# Altium schematic symbol library CrystalOscillator.SchLib: 5 symbols
Pins are listed as number, name and electrical type; pins without a type are passive.

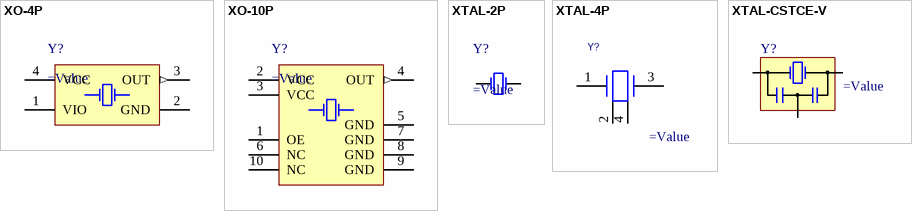
[diagram p0: symbols XO-4P to XTAL-CSTCE-V]

## XO-4P
designator Y?
pins: 1 VIO, 2 GND, 3 OUT (out), 4 VCC

## XO-10P
designator Y?
pins: 1 OE, 2 VCC, 3 VCC, 4 OUT (out), 5 GND, 6 NC, 7 GND, 8 GND, 9 GND, 10 NC

## XTAL-2P
designator Y?
Crystal Oscillator; Published: 8-Jun-2000; Revision: July-2002: Re-released for DXP Platform.; Publisher: Altium Limited
pins: 1 OSC1, 2 OSC2

## XTAL-4P
designator Y?
pins: 1 GND, 2 GND, 3 GND, 4 GND

## XTAL-CSTCE-V
designator Y?
Resonator Oscillator; Published: 8-Jun-2000; Revision: July-2002: Re-released for DXP Platform.; Publisher: Altium Limited
pins: 1 OSC1, 2 GND, 3 OSC2